# Altium footprint library Derek_2020_08_26.PcbLib: 40 footprints (part 2 of 3)
Each footprint in its own frame and in the unit in brackets; x right, y up, seen from the top. Pads: shape width x height; smd on the part's side, far side on the other; paste and mask are expansions set on the pad; w line width, h text height; cw(c..) or ccw(c..) is an arc to the next point about the centre after c.
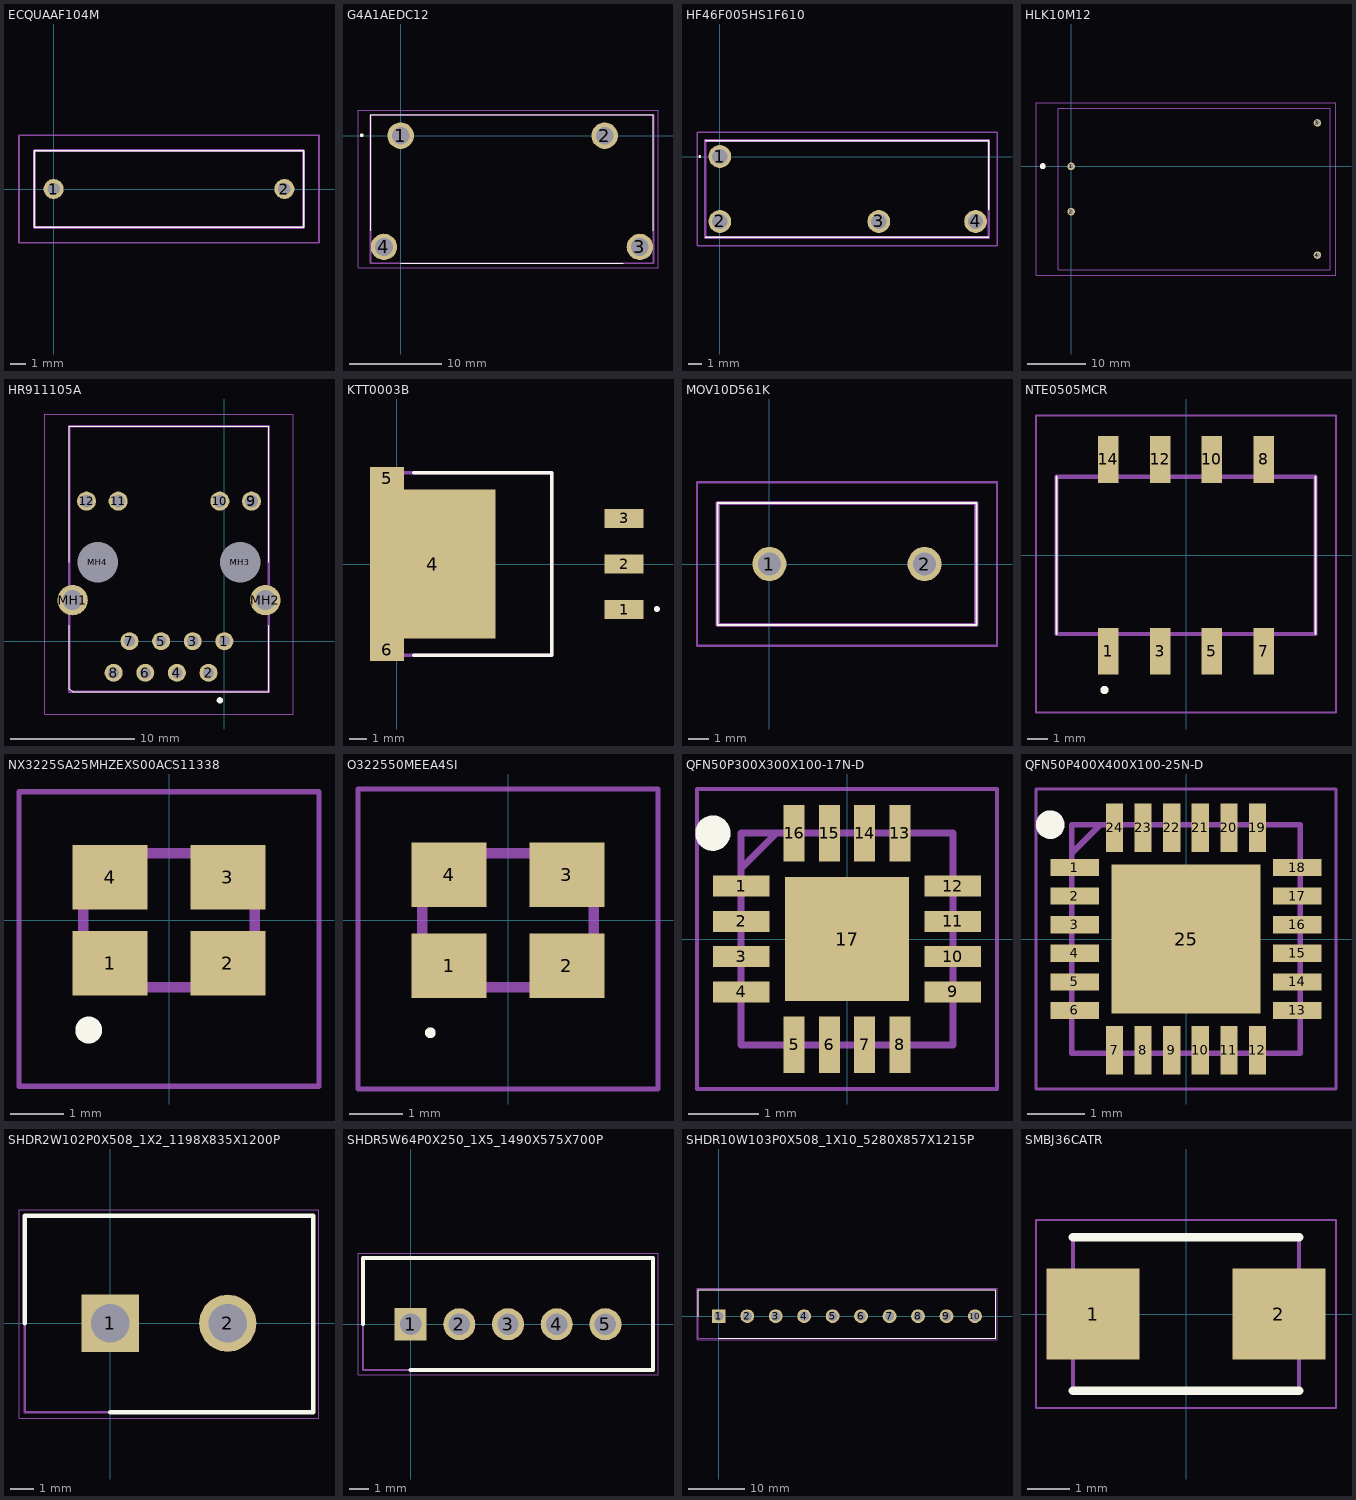
[diagram p1: the footprints below, top view; thin cyan lines are the x and y axes]

## ECQUAAF104M [mm]
pads (2):
  round 1.3 hole 0.8: 1(0,0) 2(15,0)
Top Overlay:
  lines w0.1: -1.25,-2.5 -1.25,2.5 16.25,2.5 16.25,-2.5 -1.25,-2.5
Mechanical 13:
  lines w0.2: -1.25,-2.5 -1.25,2.5 16.25,2.5 16.25,-2.5 -1.25,-2.5
Mechanical 15:
  lines w0.1: -2.25,-3.5 -2.25,3.5 17.25,3.5 17.25,-3.5 -2.25,-3.5
3D body "ECQ-UAAF104M.stp": height 12.6, standoff -5, extent -1.25,-2.5 16.25,2.5

## G4A1AEDC12 [mm]
pads (4):
  round 2.85 hole 1.9: 1(0,0) 2(22,0) 3(25.8,-12) 4(-1.8,-12)
Top Overlay:
  lines w0.1: -3.25,-10.25 -3.25,2.25 27.25,2.25 27.25,-10.25 ; 0,-13.75 24,-13.75
  lines w0.2: -4.2,-0.05 cw(c-4.2,0.05) -4.2,0.15 cw(c-4.2,0.05) -4.2,-0.05
Mechanical 13:
  lines w0.2: -3.25,-13.75 -3.25,2.25 27.25,2.25 27.25,-13.75 -3.25,-13.75
Mechanical 15:
  lines w0.1: -4.6,-14.25 -4.6,2.75 27.75,2.75 27.75,-14.25 -4.6,-14.25
3D body "G4A-1A-E_DC12.stp": height 33.6, standoff -5, extent -3.25,-13.75 27.25,2.25

## HF46F005HS1F610 [mm]
pads (4):
  round 1.65 hole 1.1: 1(0,0) 2(0,-4.7) 3(11.5,-4.7) 4(18.5,-4.7)
Top Overlay:
  lines w0.1: -1.05,-5.85 19.45,-5.85 ; -1.05,1.15 19.45,1.15 19.45,-3.85 ; -1.5,0 ccw(c-1.45,0) -1.4,0 ccw(c-1.45,0) -1.5,0
Mechanical 13:
  lines w0.2: -1.05,-5.85 -1.05,1.15 19.45,1.15 19.45,-5.85 -1.05,-5.85
Mechanical 15:
  lines w0.1: -1.65,-6.45 -1.65,1.75 20.05,1.75 20.05,-6.45 -1.65,-6.45
3D body "HF46F_005-HS1F_610_.stp": height 15.7, standoff -5, extent -1.05,-5.85 19.45,1.15

## HLK10M12 [mm]
pads (4):
  round 1.3 hole 0.8: 1(0,0) 2(0,-7.8) 3(42.5,7.5) 4(42.5,-15.3)
Top Overlay:
  lines w0.7: -5.05,0 ccw(c-4.9,0.05) -4.75,0.1 ccw(c-4.9,0.05) -5.05,0
Mechanical 13:
  lines w0.2: -2.2,-17.8 -2.2,10 44.7,10 44.7,-17.8 -2.2,-17.8
Mechanical 15:
  lines w0.1: -6.058,-18.8 -6.058,11 45.7,11 45.7,-18.8 -6.058,-18.8
3D body "HLK-10M12.stp": height 21.9, standoff -5, extent -2.2,-17.8 44.7,10

## HR911105A [mm]
pads (16):
  round 1.446 hole 0.89: 1(0,0) 2(-1.27,-2.54) 3(-2.54,0) 4(-3.81,-2.54) 5(-5.08,0) 6(-6.35,-2.54) 7(-7.62,0) 8(-8.89,-2.54)
  round 1.53 hole 1.02: 9(2.18,11.25) 10(-0.36,11.25) 11(-8.53,11.25) 12(-11.07,11.25)
  round 2.445 hole 1.63: MH1(-12.19,3.3) MH2(3.3,3.3)
  round 1.625 hole 3.25 unplated: MH3(1.27,6.35) MH4(-10.16,6.35)
Top Overlay:
  lines w0.1: -12.465,1.27 -12.465,-3.81 -12.19,-4.05 3.575,-4.05 3.575,1.27 ; -12.465,6.35 -12.465,17.25 3.575,17.25 3.575,6.35
  lines w0.3: -0.36,-4.85 ccw(c-0.36,-4.75) -0.36,-4.65 ccw(c-0.36,-4.75) -0.36,-4.85
Mechanical 13:
  lines w0.2: -12.465,-4.05 -12.465,17.25 3.575,17.25 3.575,-4.05 -12.465,-4.05
Mechanical 15:
  lines w0.1: -14.413,-5.85 -14.413,18.25 5.523,18.25 5.523,-5.85 -14.413,-5.85
3D body "HR911105A.stp": height 13.85, standoff -5, extent -12.899,-4.05 4.015,17.25

## KTT0003B [mm]
pads (6):
  rect 2.16x1.07 smd: 1(12.67,-2.54) 2(12.67,0) 3(12.67,2.54)
  rect 7x8.33 smd: 4(2,0)
  rect 1.91x1.235 smd: 5(-0.545,4.782) 6(-0.545,-4.782)
Top Overlay:
  circle w0.2: c14.497,-2.51 r0.065
  lines w0.2: 0.94,-5.08 8.64,-5.08 8.64,5.08 0.94,5.08
Mechanical 13:
  lines w0.2: 0,-5.08 0,5.08 8.64,5.08 8.64,-5.08 0,-5.08
3D body "LM1086ISX-3.3_NOPB.stp": height 4.54, standoff 0, extent -1.517,-5.08 13.722,5.08

## MOV10D561K [mm]
pads (2):
  round 1.65 hole 1.1: 1(0,0) 2(7.5,0)
Top Overlay:
  lines w0.1: -2.5,-2.95 -2.5,2.95 10,2.95 10,-2.95 -2.5,-2.95
Mechanical 13:
  lines w0.2: -2.5,-2.95 -2.5,2.95 10,2.95 10,-2.95 -2.5,-2.95
Mechanical 15:
  lines w0.1: -3.5,-3.95 -3.5,3.95 11,3.95 11,-3.95 -3.5,-3.95
3D body "MOV-10D561K.stp": height 15.6, standoff -5, extent -2.5,-2.95 10,2.95

## NTE0505MCR [mm]
pads (8):
  rect 1x2.3 smd: 1(-3.81,-4.7) 3(-1.27,-4.7) 5(1.27,-4.7) 7(3.81,-4.7) 8(3.81,4.7) 10(1.27,4.7) 12(-1.27,4.7) 14(-3.81,4.7)
Top Overlay:
  lines w0.1: -6.35,-3.85 -6.35,3.85 ; 6.35,-3.85 6.35,3.85
  lines w0.2: -4,-6.7 ccw(c-4,-6.6) -4,-6.5 ccw(c-4,-6.6) -4,-6.7
Mechanical 13:
  lines w0.2: -6.35,-3.85 -6.35,3.85 6.35,3.85 6.35,-3.85 -6.35,-3.85
Mechanical 15:
  lines w0.1: -7.35,-7.7 -7.35,6.85 7.35,6.85 7.35,-7.7 -7.35,-7.7
3D body "NTE0505MC-R.stp": height 6.95, standoff 0, extent -6.35,-5.75 6.35,5.75

## NX3225SA25MHZEXS00ACS11338 [mm]
pads (4):
  rect 1.4x1.2 smd: 1(-1.1,-0.8) 2(1.1,-0.8) 3(1.1,0.8) 4(-1.1,0.8)
Top Overlay:
  lines w0.4: -1.5,-2.1 ccw(c-1.5,-2.05) -1.5,-2 ccw(c-1.5,-2.05) -1.5,-2.1
Mechanical 13:
  lines w0.2: -1.6,-1.25 -1.6,1.25 1.6,1.25 1.6,-1.25 -1.6,-1.25
Mechanical 15:
  lines w0.1: -2.8,-3.1 -2.8,2.4 2.8,2.4 2.8,-3.1 -2.8,-3.1
3D body "NX3225SA-25MHZ-EXS00A-CS11338.stp": height 0.7, standoff 0, extent -1.68,-1.28 1.68,1.28

## O322550MEEA4SI [mm]
pads (4):
  rect 1.4x1.2 smd: 1(-1.1,-0.85) 2(1.1,-0.85) 3(1.1,0.85) 4(-1.1,0.85)
Top Overlay:
  lines w0.1: -1.5,-2.1 cw(c-1.45,-2.1) -1.4,-2.1 cw(c-1.45,-2.1) -1.5,-2.1
Mechanical 13:
  lines w0.2: -1.6,-1.25 -1.6,1.25 1.6,1.25 1.6,-1.25 -1.6,-1.25
Mechanical 15:
  lines w0.1: -2.8,-3.15 -2.8,2.45 2.8,2.45 2.8,-3.15 -2.8,-3.15
3D body "O322550MEEA4SI.stp": height 1.2, standoff 0, extent -1.68,-1.33 1.68,1.33

## QFN50P300X300X100-17N-D [mm]
pads (17):
  rect 0.8x0.3 smd: 1(-1.5,0.75) 2(-1.5,0.25) 3(-1.5,-0.25) 4(-1.5,-0.75) 9(1.5,-0.75) 10(1.5,-0.25) 11(1.5,0.25) 12(1.5,0.75)
  rect 0.3x0.8 smd: 5(-0.75,-1.5) 6(-0.25,-1.5) 7(0.25,-1.5) 8(0.75,-1.5) 13(0.75,1.5) 14(0.25,1.5) 15(-0.25,1.5) 16(-0.75,1.5)
  rect 1.75x1.75 smd: 17(0,0)
Top Overlay:
  circle w0.25: c-1.9,1.5 r0.125
Mechanical 13:
  lines w0.1: -1.5,1 -1,1.5 ; -1.5,-1.5 -1.5,1.5 1.5,1.5 1.5,-1.5 -1.5,-1.5
Mechanical 15:
  lines w0.05: -2.125,-2.125 -2.125,2.125 2.125,2.125 2.125,-2.125 -2.125,-2.125
3D body "TLV62130ARGTR.stp": height 1, standoff 0, extent -1.55,-1.55 1.55,1.55

## QFN50P400X400X100-25N-D [mm]
pads (25):
  rect 0.85x0.3 smd: 1(-1.95,1.25) 2(-1.95,0.75) 3(-1.95,0.25) 4(-1.95,-0.25) 5(-1.95,-0.75) 6(-1.95,-1.25) 13(1.95,-1.25) 14(1.95,-0.75) 15(1.95,-0.25) 16(1.95,0.25) 17(1.95,0.75) 18(1.95,1.25)
  rect 0.3x0.85 smd: 7(-1.25,-1.95) 8(-0.75,-1.95) 9(-0.25,-1.95) 10(0.25,-1.95) 11(0.75,-1.95) 12(1.25,-1.95) 19(1.25,1.95) 20(0.75,1.95) 21(0.25,1.95) 22(-0.25,1.95) 23(-0.75,1.95) 24(-1.25,1.95)
  rect 2.6x2.6 smd: 25(0,0)
Top Overlay:
  circle w0.25: c-2.375,2 r0.125
Mechanical 13:
  lines w0.1: -2,1.5 -1.5,2 ; -2,-2 -2,2 2,2 2,-2 -2,-2
Mechanical 15:
  lines w0.05: -2.625,-2.625 -2.625,2.625 2.625,2.625 2.625,-2.625 -2.625,-2.625
3D body "LAN8720A-CP.stp": height 1, standoff 0, extent -2.05,-2.05 2.05,2.05

## SHDR2W102P0X508_1X2_1198X835X1200P [mm]
pads (2):
  rect 2.475x2.475 hole 1.65: 1(0,0)
  round 2.475 hole 1.65: 2(5.08,0)
Top Overlay:
  lines w0.2: -3.7,0 -3.7,4.65 8.78,4.65 8.78,-3.85 0,-3.85
Mechanical 13:
  lines w0.1: -3.7,-3.85 8.78,-3.85 8.78,4.65 -3.7,4.65 -3.7,-3.85
Mechanical 15:
  lines w0.05: -3.95,-4.1 9.03,-4.1 9.03,4.9 -3.95,4.9 -3.95,-4.1
3D body "796636-2.stp": height 12, standoff -3.8, extent -3.45,-4.175 8.53,4.175

## SHDR5W64P0X250_1X5_1490X575X700P [mm]
pads (5):
  rect 1.65x1.65 hole 1.1: 1(0,0)
  round 1.65 hole 1.1: 2(2.5,0) 3(5,0) 4(7.5,0) 5(10,0)
Top Overlay:
  lines w0.2: -2.45,0 -2.45,3.4 12.45,3.4 12.45,-2.35 0,-2.35
Mechanical 13:
  lines w0.1: -2.45,-2.35 12.45,-2.35 12.45,3.4 -2.45,3.4 -2.45,-2.35
Mechanical 15:
  lines w0.05: -2.7,-2.6 12.7,-2.6 12.7,3.65 -2.7,3.65 -2.7,-2.6
3D body "B5B-XH-A__LF__SN_.stp": height 7, standoff -3.4, extent -2.45,-2.875 12.45,2.875

## SHDR10W103P0X508_1X10_5280X857X1215P [mm]
pads (10):
  rect 2.475x2.475 hole 1.65: 1(0,0)
  round 2.475 hole 1.65: 2(5.08,0) 3(10.16,0) 4(15.24,0) 5(20.32,0) 6(25.4,0) 7(30.48,0) 8(35.56,0) 9(40.64,0) 10(45.72,0)
Top Overlay:
  lines w0.2: -3.64,0 -3.64,4.75 49.41,4.75 49.41,-3.97 0,-3.97
Mechanical 13:
  lines w0.1: -3.64,-3.97 49.41,-3.97 49.41,4.75 -3.64,4.75 -3.64,-3.97
Mechanical 15:
  lines w0.05: -3.89,-4.22 49.66,-4.22 49.66,5 -3.89,5 -3.89,-4.22
3D body "MSTBVA_2,5_10-G-5,08.stp": height 12.15, standoff -4.1, extent -3.54,-4.285 49.26,4.285

## SMBJ36CATR [mm]
pads (2):
  rect 2.2x2.15 smd: 1(-2.2,0) 2(2.2,0)
Top Overlay:
  lines w0.2: -2.675,-1.812 2.675,-1.812 ; -2.675,1.812 2.675,1.812
Mechanical 13:
  lines w0.1: -2.675,-1.812 -2.675,1.812 2.675,1.812 2.675,-1.812 -2.675,-1.812
Mechanical 15:
  lines w0.05: -3.55,-2.225 -3.55,2.225 3.55,2.225 3.55,-2.225 -3.55,-2.225
3D body "SMBJ24CA.stp": height 2.75, standoff 0, extent -3.085,-1.812 3.085,1.812